# EAGLE library part LT1506 (library QuantumOptics)
LT1506, LinTech buch regulator, internal switch 4.5A, adj or fixed +3.3V. http://www.linear.com/pc/downloadDocument.do?navId=H0,C1,C1003,C1042,C1032,P1910,D1356
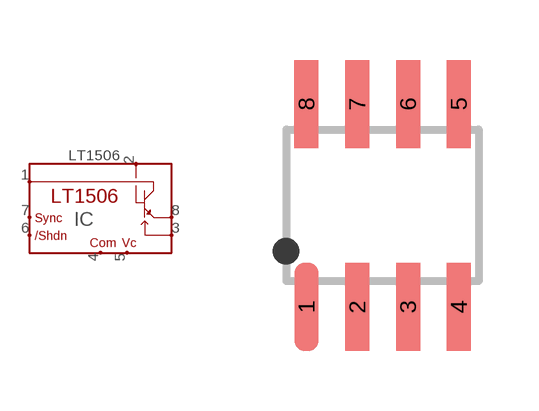
[diagram p70: symbol with the pads of SOIC-8; footprint SOIC-8]

Designator prefix IC

## LT1506  [SOIC-8]
1  VIN
2  BOOST
3  SENSE
4  COM
5  VC
6  /SHDN
7  /SYNC
8  VSW

## Footprint SOIC-8 (pad centres in mm)
SOIC-8 (a.k.a. SO-8), pads on 0.050" x 0.200" c-c spacing.
smd 0.6 x 2.2: 1 -1.27,-2.54; 2 0,-2.54; 3 1.27,-2.54; 4 2.54,-2.54; 5 2.54,2.54; 6 1.27,2.54; 7 0,2.54; 8 -1.27,2.54